# Altium schematic symbol library DMG3415UQ-7.SchLib: 1 symbol
Pins are listed as number, name and electrical type; pins without a type are passive.

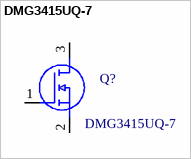
[diagram p0: symbol DMG3415UQ-7]

## DMG3415UQ-7
designator Q?
MOSFET MOSFET BVDSS: 8V 24V SOT23 T&R 3K; Manufacturer_Name: Diodes Inc.; Geometry.Height: 1.1mm; Mouser Part Number: 621-DMG3415UQ-7; Mouser Price/Stock: https://www.mouser.co.uk/ProductDetail/Diodes-Incorporated/DMG3415UQ-7?qs=W%2FMpXkg%252BdQ7LApGrRiCM5A%3D%3D; Manufacturer_Part_Number: DMG3415UQ-7; Datasheet Link: https://www.diodes.com/assets/Datasheets/ds31735.pdf
footprint SOT96P240X110-3N
pins: 1 G, 2 S, 3 D